# EAGLE library part MC33063A (library RD)
PULSE WIDTH MODULATOR
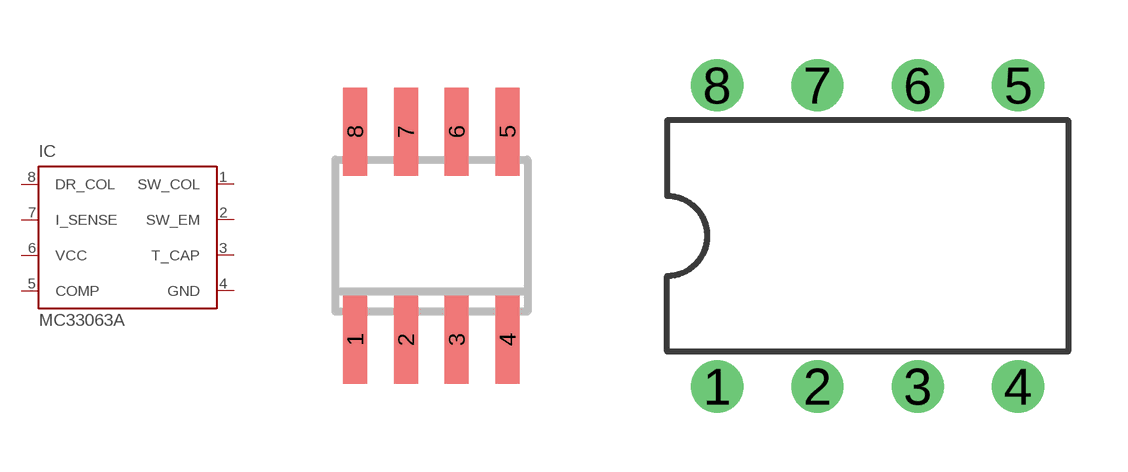
[diagram p0: symbol with the pads of SO-08; footprints SO-08, DIL08]

Designator prefix IC

## MC33063AD  [SO-08]
1  SW_COL  in
2  SW_EM  out
3  T_CAP  pas
4  GND  pwr
5  COMP  pas
6  VCC  pwr
7  I_SENSE  in
8  DR_COL  pas

## MC33063AP  [DIL08]
Pads as for SO-08

## Footprint SO-08 (pad centres in mm)
D (R-PDSO-G8) Plastic Small Outline Package Source: http://focus.ti.com/lit/ds/symlink/sn65als176.pdf
smd 0.6 x 2.2: 1 -1.905,-2.6; 2 -0.635,-2.6; 3 0.635,-2.6; 4 1.905,-2.6; 5 1.905,2.6; 6 0.635,2.6; 7 -0.635,2.6; 8 -1.905,2.6

## Footprint DIL08 (pad centres in mm)
Dual In Line Package
drill 0.813 pad 1.27: 1 -3.81,-3.81; 2 -1.27,-3.81; 3 1.27,-3.81; 4 3.81,-3.81; 5 3.81,3.81; 6 1.27,3.81; 7 -1.27,3.81; 8 -3.81,3.81